# Altium footprint library ESP8266.PcbLib: 1 footprints
Each footprint in its own frame and in the unit in brackets; x right, y up, seen from the top. Pads: shape width x height; smd on the part's side, far side on the other; paste and mask are expansions set on the pad; w line width, h text height; cw(c..) or ccw(c..) is an arc to the next point about the centre after c.
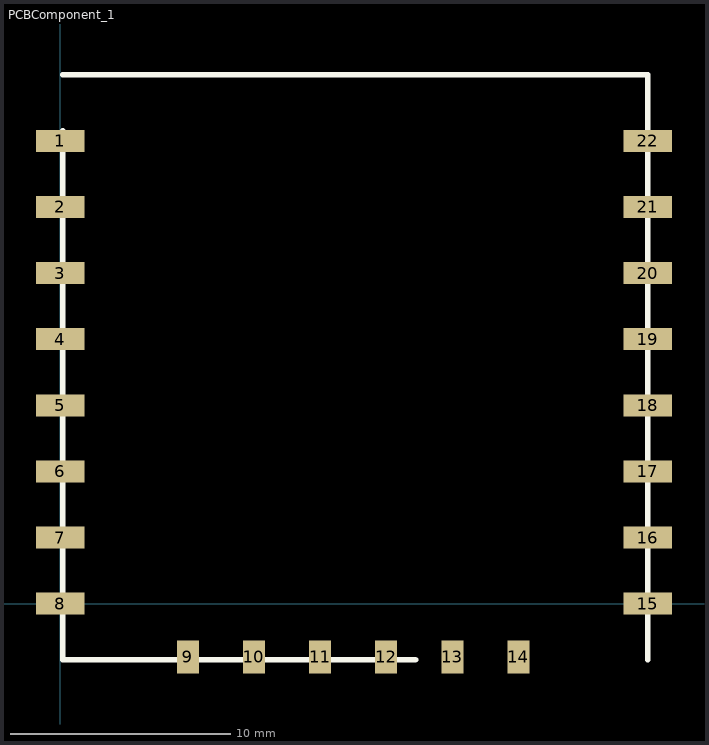
[diagram p0: the footprint, top view; thin cyan lines are the x and y axes]

## PCBComponent_1 [mm]
pads (22):
  rect 2.2x1 smd: 1(0,21) 2(0,18) 3(0,15) 4(0,12) 5(0,9) 6(0,6) 7(0,3) 8(0,0) 15(26.67,0) 16(26.67,3) 17(26.67,6) 18(26.67,9) 19(26.67,12) 20(26.67,15) 21(26.67,18) 22(26.67,21)
  rect 1x1.5 smd: 9(5.794,-2.413) 10(8.794,-2.413) 11(11.794,-2.413) 12(14.794,-2.413) 13(17.794,-2.413) 14(20.794,-2.413)
Top Overlay:
  lines w0.254: 0.127,21.46 0.127,-2.54 16.127,-2.54 ; 0.127,24.003 26.67,24.003 26.67,-1.778 26.67,-2.54